# EAGLE library part 64801011622 (library Wire-to-Board (rev18a))
WR-WTB 1.50mm Male Vertical Shrouded Header, 10 Pins=>Code : Con_WTB_1.50_PCB_THT_64801011622 <http://katalog.we-online.de/media/thumbs2/eican/thb_Con_WTB_1.50_PCB_THT_6480xx11622_pf2.jpg> Details see: http://katalog.we-online.de/en/em/WTB_1_50_MALE_VERTICAL_SHROUDED_HEADER_6480XX11622 Created 2014-06-05, Karrer Zheng 2014 (C) Würth Elektronik
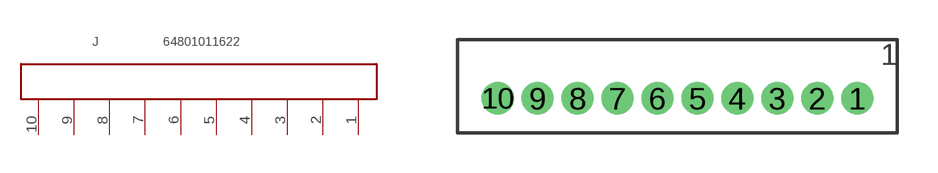
[diagram p76: symbol with the pads of 64801011622; footprint 64801011622]

Designator prefix J

## 64801011622  [64801011622]
1  1  pas
2  2  pas
3  3  pas
4  4  pas
5  5  pas
6  6  pas
7  7  pas
8  8  pas
9  9  pas
10  10  pas

## Footprint 64801011622 (pad centres in mm)
WR-WTB 1.50mm Male Vertical Shrouded Header, 10 Pins
drill 0.7: 1 6.75,0; 2 5.25,0; 3 3.75,0; 4 2.25,0; 5 0.75,0; 6 -0.75,0; 7 -2.25,0; 8 -3.75,0; 9 -5.25,0; 10 -6.75,0